# Altium schematic symbol library Presgo.SchLib: 2 symbols
Pins are listed as number, name and electrical type; pins without a type are passive.

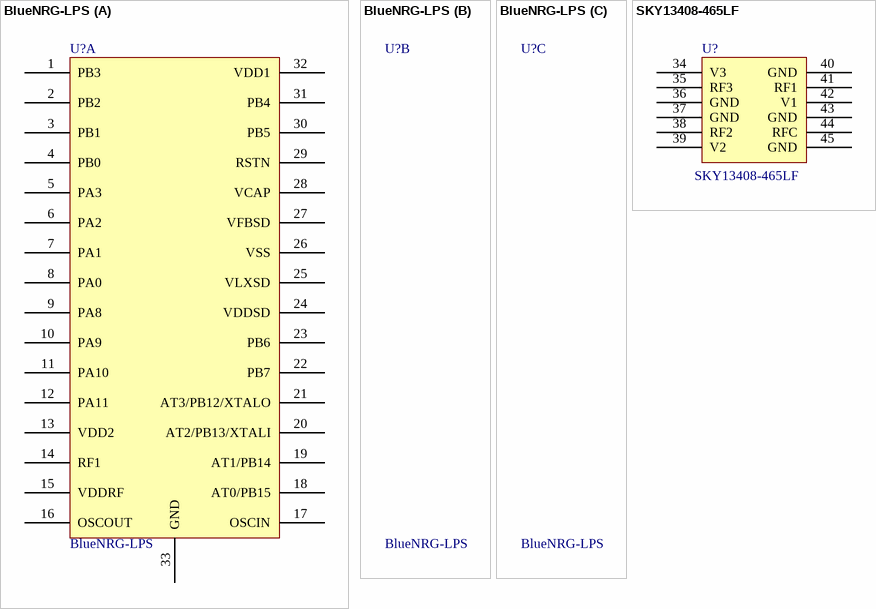
[diagram p0: symbols BlueNRG-LPS to SKY13408-465LF]

## BlueNRG-LPS
designator U?
IC RF TxRx + MCU Bluetooth Bluetooth v5.3 2.4GHz 32-VFQFN Exposed Pad; Supplier 1: Mouser; Supplier Part Number 1: 511-BLUENRG-332AT
footprint VFQFPN32-5x5mm-M
part A pins: 1 PB3, 2 PB2, 3 PB1, 4 PB0, 5 PA3, 6 PA2, 7 PA1, 8 PA0, 9 PA8, 10 PA9, 11 PA10, 12 PA11, 13 VDD2, 14 RF1, 15 VDDRF, 16 OSCOUT, 17 OSCIN, 18 AT0/PB15, 19 AT1/PB14, 20 AT2/PB13/XTALI, 21 AT3/PB12/XTALO, 22 PB7, 23 PB6, 24 VDDSD, 25 VLXSD, 26 VSS, 27 VFBSD, 28 VCAP, 29 RSTN, 30 PB5, 31 PB4, 32 VDD1, 33 GND

## SKY13408-465LF
designator U?
1.0 - 6.0 GHz SP3T Switch, 50 Ω Terminated; Supplier 1: Mouser; Supplier Part Number 1: 873-SKY13408-465LF
pins: 34 V3, 35 RF3, 36 GND, 37 GND, 38 RF2, 39 V2, 40 GND, 41 RF1, 42 V1, 43 GND, 44 RFC, 45 GND